# Altium footprint library DW-07-09-G-D-375.PcbLib: 1 footprints
Each footprint in its own frame and in the unit in brackets; x right, y up, seen from the top. Pads: shape width x height; smd on the part's side, far side on the other; paste and mask are expansions set on the pad; w line width, h text height; cw(c..) or ccw(c..) is an arc to the next point about the centre after c.
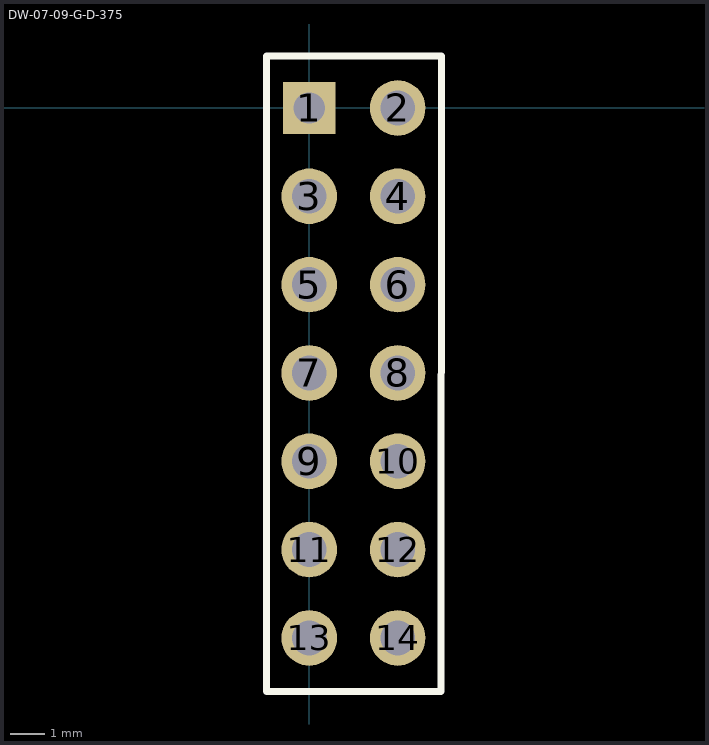
[diagram p0: the footprint, top view; thin cyan lines are the x and y axes]

## DW-07-09-G-D-375 [mm]
pads (14):
  rect 1.5x1.5 hole 0.9: 1(0,0)
  round 1.6 hole 1 mask+0.05: 2(2.54,0) 3(0,-2.54) 4(2.54,-2.54) 5(0,-5.08) 6(2.54,-5.08) 7(0,-7.62) 8(2.54,-7.62) 9(0,-10.16) 10(2.54,-10.16) 11(0,-12.7) 12(2.54,-12.7) 13(0,-15.24) 14(2.54,-15.24)
Top Overlay:
  lines w0.2: -1.23,-16.78 -1.23,1.5 ; -1.23,-16.78 3.79,-16.78 3.8,1.5 -1.23,1.5
Top Assembly:
  lines w0.05: -1.23,-16.8 -1.23,1.5 3.8,1.5 3.787,-16.8 -1.23,-16.8
Top Courtyard:
  lines w0.05: -1.23,-16.8 -1.23,1.5 3.8,1.5 3.787,-16.8 -1.23,-16.8
3D body "DW-07-09-G-D-375.stp": height 15.75, standoff -2.79, extent -1.24,-16.59 3.84,1.19